# Altium footprint library B5B-PH-K-S.PcbLib: 1 footprints
Each footprint in its own frame and in the unit in brackets; x right, y up, seen from the top. Pads: shape width x height; smd on the part's side, far side on the other; paste and mask are expansions set on the pad; w line width, h text height; cw(c..) or ccw(c..) is an arc to the next point about the centre after c.
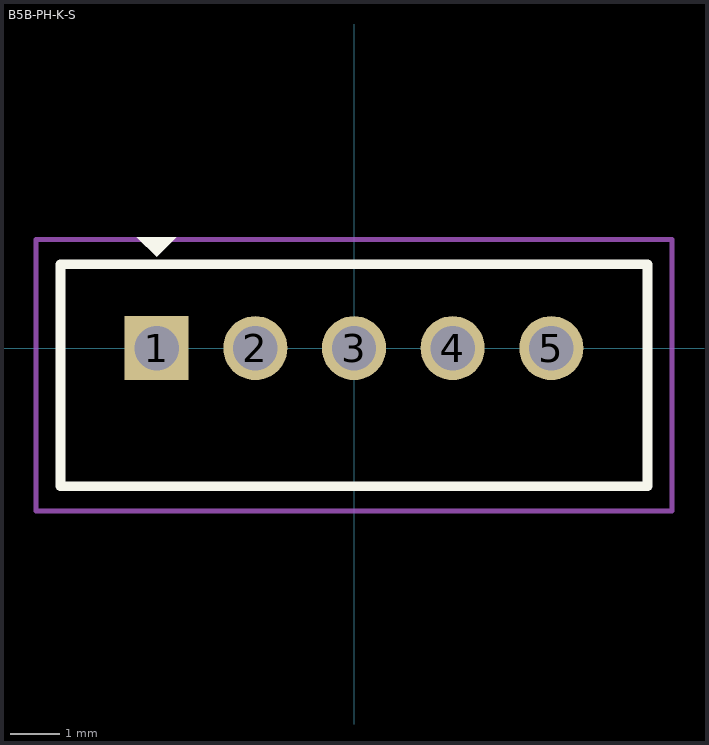
[diagram p0: the footprint, top view; thin cyan lines are the x and y axes]

## B5B-PH-K-S [mm]
pads (5):
  rect 1.3x1.3 hole 0.9: 1(-4,0)
  round 1.3 hole 0.9: 2(-2,0) 3(0,0) 4(2,0) 5(4,0)
Top Overlay:
  region: -4.4,2.25 -3.6,2.25 -4,1.85
  lines w0.2: -5.95,-2.8 -5.95,1.7 5.95,1.7 5.95,-2.8 -5.95,-2.8
Top Courtyard:
  lines w0.1: -6.45,-3.3 -6.45,-2.8 -6.45,2.2 6.45,2.2 6.45,-3.3 5.95,-3.3 -6.45,-3.3
3D body "B5B-PH-K-S.STEP": height 6, standoff -3.4, extent -5.95,-2.8 5.95,1.7